# Altium footprint library DG390-5.0-03P.PcbLib: 1 footprints
Each footprint in its own frame and in the unit in brackets; x right, y up, seen from the top. Pads: shape width x height; smd on the part's side, far side on the other; paste and mask are expansions set on the pad; w line width, h text height; cw(c..) or ccw(c..) is an arc to the next point about the centre after c.
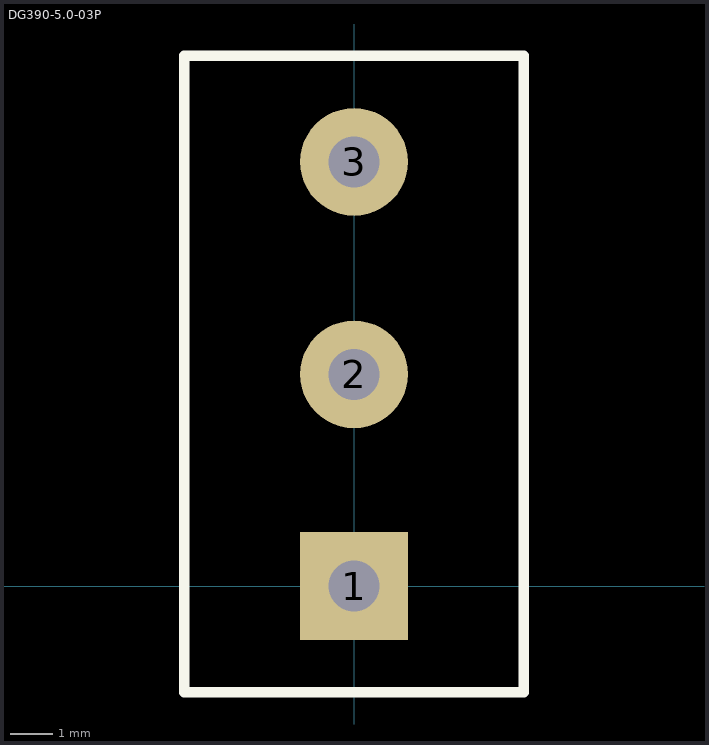
[diagram p0: the footprint, top view; thin cyan lines are the x and y axes]

## DG390-5.0-03P [mm]
pads (3):
  rect 2.54x2.54 hole 1.2: 1(0,0)
  round 2.54 hole 1.2: 2(0,4.992) 3(0,10)
Top Overlay:
  lines w0.254: -4,-2.5 -4,12.5 4,12.5 4,-2.5 -4,-2.5